# Altium footprint library Footprint.PcbLib: 105 footprints (part 5 of 7)
Each footprint in its own frame and in the unit in brackets; x right, y up, seen from the top. Pads: shape width x height; smd on the part's side, far side on the other; paste and mask are expansions set on the pad; w line width, h text height; cw(c..) or ccw(c..) is an arc to the next point about the centre after c.
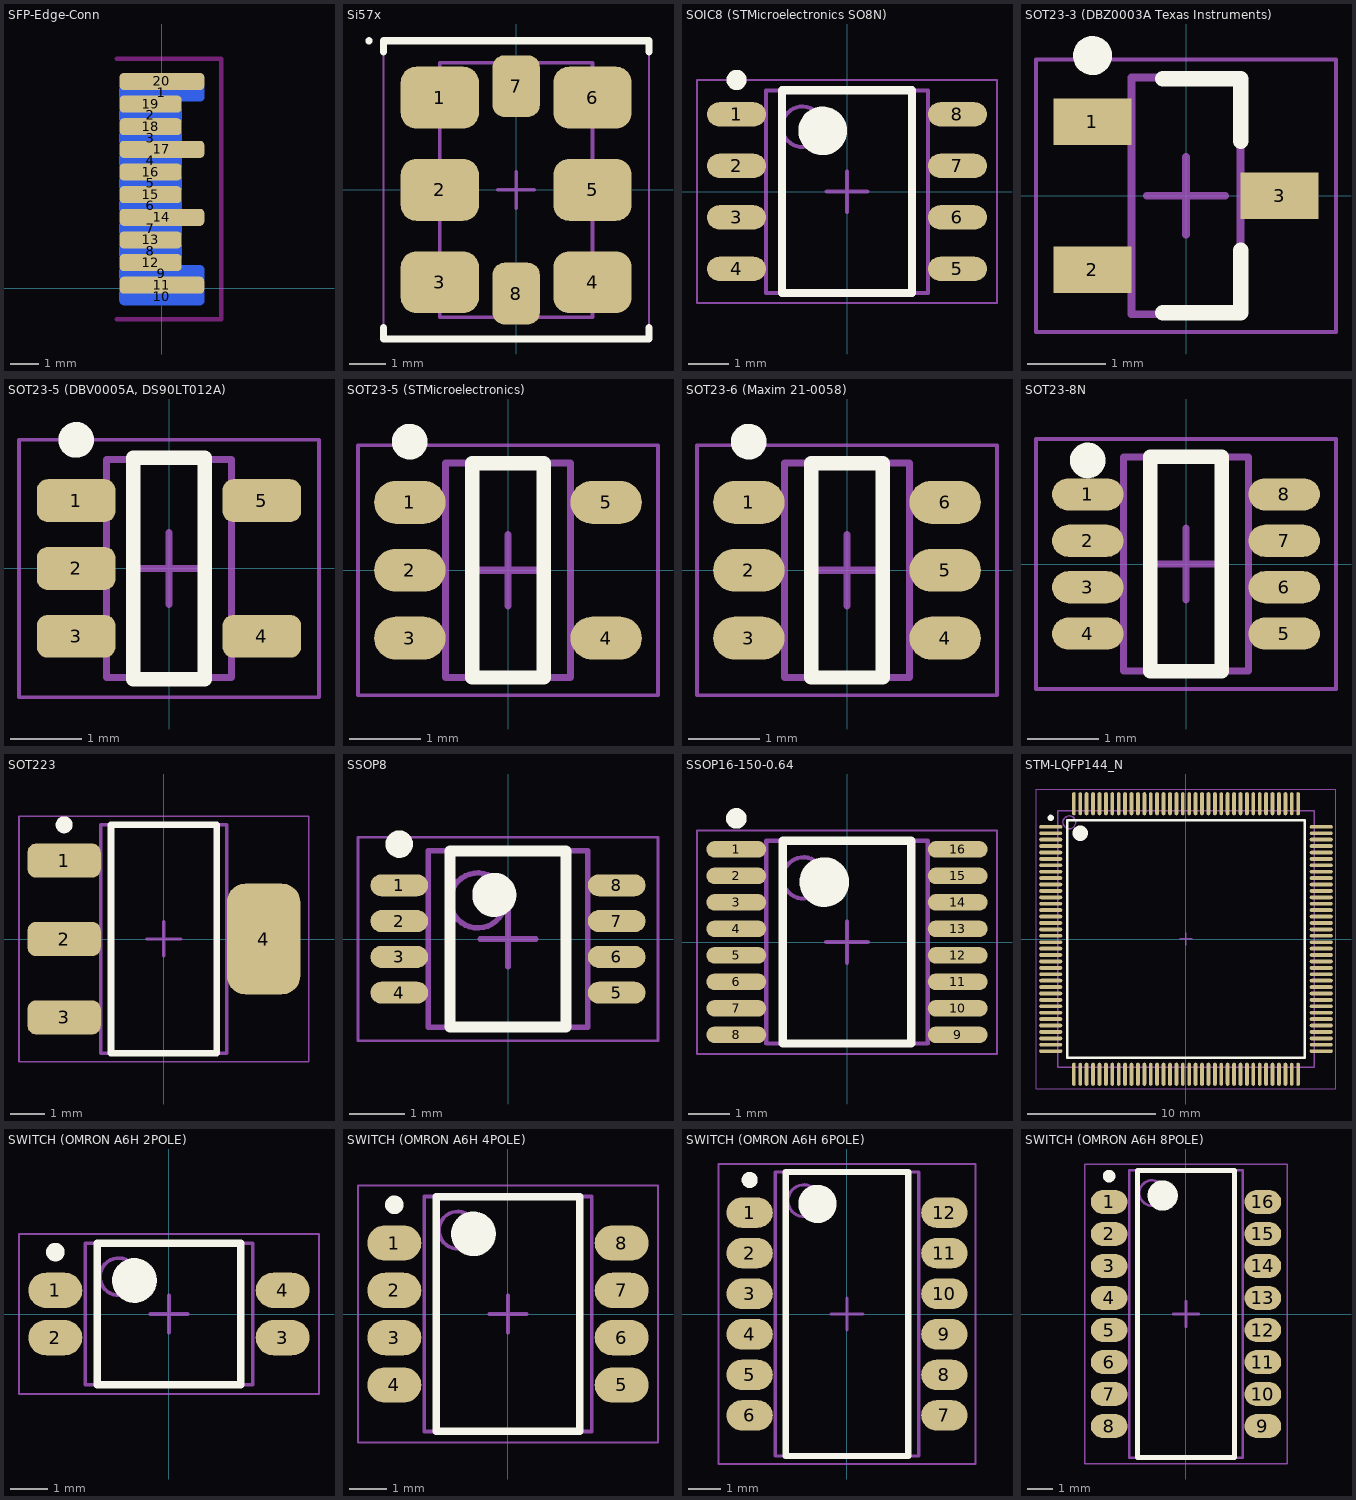
[diagram p4: the footprints below, top view; thin cyan lines are the x and y axes]

## SFP-Edge-Conn [mm]
pads (20):
  rrect50% 3x0.6 smd far side paste-2539.97 mask+0.102: 1(0,6.9) 9(0,0.5) 10(0,-0.3)
  rrect50% 2.2x0.6 smd far side paste-2539.97 mask+0.102: 2(-0.4,6.1) 3(-0.4,5.3) 4(-0.4,4.5) 5(-0.4,3.7) 6(-0.4,2.9) 7(-0.4,2.1) 8(-0.4,1.3)
  rrect50% 3x0.6 smd paste-2539.97 mask-2539.97: 11(0,0.1) 14(0,2.5) 17(0,4.9) 20(0,7.3)
  rrect50% 2.2x0.6 smd paste-2539.97 mask-2539.97: 12(-0.4,0.9) 13(-0.4,1.7) 15(-0.4,3.3) 16(-0.4,4.1) 18(-0.4,5.7) 19(-0.4,6.5)
Top Paste:
  drawing of 10 lines, arcs and shapes, not listed
Bottom Paste:
  drawing of 10 lines, arcs and shapes, not listed
Top Solder:
  drawing of 10 lines, arcs and shapes, not listed
Bottom Solder:
  drawing of 10 lines, arcs and shapes, not listed
Keep-Out Layer:
  lines w0.15: -1.6,-1.1 2.1,-1.1 2.1,8.1 -1.6,8.1
3D body: height 0, standoff 0, extent -1.675,-0.7 1.6,7.7

## Si57x [mm] "Chip Array, Flat, 8-Leads, Pitch 2.54mm,  Body 7.00x5.00mm,  IPC Medium Density"
height 1.8
pads (8):
  rrect50% 2.15x1.7 smd: 1(-2.1,2.54) 2(-2.1,0) 3(-2.1,-2.54) 4(2.1,-2.54) 5(2.1,0) 6(2.1,2.54)
  rrect50% 1.3x1.7 smd: 7(0,2.852) 8(0,-2.852)
Top Overlay:
  circle w0.1: c-4.05,4.1 r0.05
  circle w0.1: c-4.05,4.1 r0.05
  lines w0.2: -3.65,-3.79 -3.65,-4.1 3.65,-4.1 3.65,-3.79 ; -3.65,3.79 -3.65,4.1 3.65,4.1 3.65,3.79
Mechanical 13:
  lines w0.1: -2.1,-3.5 2.1,-3.5 2.1,3.5 -2.1,3.5 -2.1,-3.5
Mechanical 15:
  lines w0.05: -3.65,-4.1 3.65,-4.1 3.65,4.1 -3.65,4.1 -3.65,-4.1
  lines w0.1: -0.5,0 0.5,0 ; 0,-0.5 0,0.5
3D body: height 1.8, standoff 0, extent -2.5,-3.5 2.5,3.5

## SOIC8 (STMicroelectronics SO8N) [mm] "SOIC, 8-Leads, Body 4,90x3,90mm, Pitch 1,27mm, IPC Medium Density"
height 1.75
pads (8):
  oval 1.45x0.6 smd: 1(-2.725,1.905) 2(-2.725,0.635) 3(-2.725,-0.635) 4(-2.725,-1.905) 5(2.725,-1.905) 6(2.725,-0.635) 7(2.725,0.635) 8(2.725,1.905)
Top Overlay:
  circle w0.6: c-0.6,1.5 r0.3
  circle w0.25: c-2.725,2.755 r0.125
  lines w0.2: -1.6,-2.5 1.6,-2.5 1.6,2.5 -1.6,2.5 -1.6,-2.5
Mechanical 13:
  circle w0.1: c-1.1,1.6 r0.5
  lines w0.1: -2,-2.5 2,-2.5 2,2.5 -2,2.5 -2,-2.5
Mechanical 15:
  lines w0.05: -3.7,-2.75 3.7,-2.75 3.7,2.75 -3.7,2.75 -3.7,-2.75
  lines w0.1: -0.5,0 0.5,0 ; 0,-0.5 0,0.5
3D body: height 1.75, standoff 0.1, extent -2,-2.5 2,2.5

## SOT23-3 (DBZ0003A Texas Instruments) [mm]
height 1.12
pads (3):
  rect 1x0.6 smd: 1(-1.2,0.95) 2(-1.2,-0.95) 3(1.2,0)
Top Overlay:
  circle w0.25: c-1.2,1.8 r0.125
  lines w0.2: -0.3,-1.5 0.7,-1.5 0.7,-0.7 ; -0.3,1.5 0.7,1.5 0.7,0.7
Mechanical 13:
  lines w0.1: -0.7,-1.52 -0.7,1.52 0.7,1.52 0.7,-1.52 -0.7,-1.52
Mechanical 15:
  lines w0.05: -1.925,-1.75 -1.925,1.75 1.925,1.75 1.925,-1.75 -1.925,-1.75
  lines w0.1: -0.5,0 0.5,0 ; 0,-0.5 0,0.5
3D body: height 1.12, standoff 0.1, extent -0.7,-1.52 0.7,1.52

## SOT23-5 (DBV0005A, DS90LT012A) [mm] "SOT23, 5-Leads, Body 2.90x2.80mm, Pitch 0.95mm, IPC Medium Density"
height 1.45
pads (5):
  rrect50% 1.1x0.6 smd: 1(-1.3,0.95) 2(-1.3,0) 3(-1.3,-0.95) 4(1.3,-0.95) 5(1.3,0.95)
Top Overlay:
  circle w0.25: c-1.3,1.8 r0.125
  lines w0.2: -0.5,-1.55 0.5,-1.55 0.5,1.55 -0.5,1.55 -0.5,-1.55
Mechanical 13:
  lines w0.1: -0.875,-1.525 -0.875,1.525 0.875,1.525 0.875,-1.525 -0.875,-1.525
Mechanical 15:
  lines w0.05: -2.1,-1.8 -2.1,1.8 2.1,1.8 2.1,-1.8 -2.1,-1.8
  lines w0.1: -0.5,0 0.5,0 ; 0,-0.5 0,0.5
3D body: height 1.45, standoff 0.15, extent -0.875,-1.525 0.875,1.525

## SOT23-5 (STMicroelectronics) [mm]
height 1.45
pads (5):
  oval 1x0.6 smd: 1(-1.375,0.95) 2(-1.375,0) 3(-1.375,-0.95) 4(1.375,-0.95) 5(1.375,0.95)
Top Overlay:
  circle w0.25: c-1.375,1.8 r0.125
  lines w0.2: -0.5,-1.5 -0.5,1.5 0.5,1.5 0.5,-1.5 -0.5,-1.5
Mechanical 13:
  lines w0.1: -0.875,-1.5 0.875,-1.5 0.875,1.5 -0.875,1.5 -0.875,-1.5
Mechanical 15:
  lines w0.05: -2.1,-1.75 2.1,-1.75 2.1,1.75 -2.1,1.75 -2.1,-1.75
  lines w0.1: -0.5,0 0.5,0 ; 0,-0.5 0,0.5
3D body: height 1.45, standoff 0.15, extent -0.875,-1.5 0.875,1.5

## SOT23-6 (Maxim 21-0058) [mm] "SOT23, 6-Leads, Body 2,90x2,80mm, Pitch 0,95mm, IPC Medium Density"
height 1.45
pads (6):
  oval 1x0.6 smd: 1(-1.375,0.95) 2(-1.375,0) 3(-1.375,-0.95) 4(1.375,-0.95) 5(1.375,0) 6(1.375,0.95)
Top Overlay:
  circle w0.25: c-1.375,1.8 r0.125
  lines w0.2: -0.5,-1.5 -0.5,1.5 0.5,1.5 0.5,-1.5 -0.5,-1.5
Mechanical 13:
  lines w0.1: -0.875,-1.5 0.875,-1.5 0.875,1.5 -0.875,1.5 -0.875,-1.5
Mechanical 15:
  lines w0.05: -2.1,-1.75 2.1,-1.75 2.1,1.75 -2.1,1.75 -2.1,-1.75
  lines w0.1: -0.5,0 0.5,0 ; 0,-0.5 0,0.5
3D body: height 1.45, standoff 0.15, extent -0.875,-1.5 0.875,1.5

## SOT23-8N [mm]
height 1.45
pads (8):
  oval 1x0.45 smd: 1(-1.375,0.975) 2(-1.375,0.325) 3(-1.375,-0.325) 4(-1.375,-0.975) 5(1.375,-0.975) 6(1.375,-0.325) 7(1.375,0.325) 8(1.375,0.975)
Top Overlay:
  circle w0.25: c-1.375,1.45 r0.125
  lines w0.2: -0.5,-1.5 -0.5,1.5 0.5,1.5 0.5,-1.5 -0.5,-1.5
Mechanical 13:
  lines w0.1: -0.875,-1.5 0.875,-1.5 0.875,1.5 -0.875,1.5 -0.875,-1.5
Mechanical 15:
  lines w0.05: -2.1,-1.75 2.1,-1.75 2.1,1.75 -2.1,1.75 -2.1,-1.75
  lines w0.1: -0.5,0 0.5,0 ; 0,-0.5 0,0.5
3D body: height 1.45, standoff 0.15, extent -0.875,-1.5 0.875,1.5

## SOT223 [mm] "SOT223, 4-Leads, Body 6.50x7.00mm (avg), Pitch 2.30mm, IPC Medium Density"
height 1.8
pads (4):
  rrect50% 2.15x1 smd: 1(-2.925,2.3) 2(-2.925,0) 3(-2.925,-2.3)
  rrect50% 2.15x3.25 smd: 4(2.925,0)
Top Overlay:
  circle w0.25: c-2.925,3.35 r0.125
  lines w0.2: -1.55,-3.35 -1.55,3.35 1.55,3.35 1.55,-3.35 -1.55,-3.35
Mechanical 13:
  lines w0.1: -1.85,-3.35 -1.85,3.35 1.85,3.35 1.85,-3.35 -1.85,-3.35
Mechanical 15:
  lines w0.05: -4.25,-3.6 -4.25,3.6 4.25,3.6 4.25,-3.6 -4.25,-3.6
  lines w0.1: -0.5,0 0.5,0 ; 0,-0.5 0,0.5
3D body: height 1.8, standoff 0.02, extent -1.85,-3.35 1.85,3.35

## SSOP8 [mm] "SSOP, 8-Leads, Body 2.95x2.80mm, Pitch 0.65mm, IPC Medium Density"
height 1.3
pads (8):
  oval 1.05x0.4 smd: 1(-1.975,0.975) 2(-1.975,0.325) 3(-1.975,-0.325) 4(-1.975,-0.975) 5(1.975,-0.975) 6(1.975,-0.325) 7(1.975,0.325) 8(1.975,0.975)
Top Overlay:
  circle w0.4: c-0.25,0.8 r0.2
  circle w0.25: c-1.975,1.725 r0.125
  lines w0.2: -1.05,-1.6 1.05,-1.6 1.05,1.6 -1.05,1.6 -1.05,-1.6
Mechanical 13:
  circle w0.1: c-0.55,0.7 r0.5
  lines w0.1: -1.45,-1.6 1.45,-1.6 1.45,1.6 -1.45,1.6 -1.45,-1.6
Mechanical 15:
  lines w0.05: -2.725,-1.85 2.725,-1.85 2.725,1.85 -2.725,1.85 -2.725,-1.85
  lines w0.1: -0.5,0 0.5,0 ; 0,-0.5 0,0.5
3D body: height 1.3, standoff 0.1, extent -1.45,-1.6 1.45,1.6

## SSOP16-150-0.64 [mm]
height 1.75
pads (16):
  oval 1.45x0.4 smd: 1(-2.675,2.24) 2(-2.675,1.6) 3(-2.675,0.96) 4(-2.675,0.32) 5(-2.675,-0.32) 6(-2.675,-0.96) 7(-2.675,-1.6) 8(-2.675,-2.24) 9(2.675,-2.24) 10(2.675,-1.6) 11(2.675,-0.96) 12(2.675,-0.32) 13(2.675,0.32) 14(2.675,0.96) 15(2.675,1.6) 16(2.675,2.24)
Top Overlay:
  circle w0.6: c-0.55,1.45 r0.3
  circle w0.25: c-2.675,2.99 r0.125
  lines w0.2: -1.55,-2.45 1.55,-2.45 1.55,2.45 -1.55,2.45 -1.55,-2.45
Mechanical 13:
  circle w0.1: c-1.05,1.55 r0.5
  lines w0.1: -1.95,-2.45 1.95,-2.45 1.95,2.45 -1.95,2.45 -1.95,-2.45
Mechanical 15:
  lines w0.05: -3.625,-2.7 3.625,-2.7 3.625,2.7 -3.625,2.7 -3.625,-2.7
  lines w0.1: -0.5,0 0.5,0 ; 0,-0.5 0,0.5
3D body: height 1.75, standoff 0.18, extent -1.95,-2.45 1.95,2.45

## STM-LQFP144_N [mm] "Thin QFP, 144-Leads, Body 20x20mm, Pitch 0.5mm, IPC Medium Density"
height 1.6
pads (144):
  oval 1.8x0.3 smd: 1(-10.55,8.75) 2(-10.55,8.25) 3(-10.55,7.75) 4(-10.55,7.25) 5(-10.55,6.75) 6(-10.55,6.25) 7(-10.55,5.75) 8(-10.55,5.25) 9(-10.55,4.75) 10(-10.55,4.25) 11(-10.55,3.75) 12(-10.55,3.25) 13(-10.55,2.75) 14(-10.55,2.25) 15(-10.55,1.75) 16(-10.55,1.25) 17(-10.55,0.75) 18(-10.55,0.25) 19(-10.55,-0.25) 20(-10.55,-0.75) 21(-10.55,-1.25) 22(-10.55,-1.75) 23(-10.55,-2.25) 24(-10.55,-2.75) 25(-10.55,-3.25) 26(-10.55,-3.75) 27(-10.55,-4.25) 28(-10.55,-4.75) 29(-10.55,-5.25) 30(-10.55,-5.75) 31(-10.55,-6.25) 32(-10.55,-6.75) 33(-10.55,-7.25) 34(-10.55,-7.75) 35(-10.55,-8.25) 36(-10.55,-8.75) 73(10.55,-8.75) 74(10.55,-8.25) 75(10.55,-7.75) 76(10.55,-7.25) 77(10.55,-6.75) 78(10.55,-6.25) 79(10.55,-5.75) 80(10.55,-5.25) 81(10.55,-4.75) 82(10.55,-4.25) 83(10.55,-3.75) 84(10.55,-3.25) 85(10.55,-2.75) 86(10.55,-2.25) 87(10.55,-1.75) 88(10.55,-1.25) 89(10.55,-0.75) 90(10.55,-0.25) 91(10.55,0.25) 92(10.55,0.75) 93(10.55,1.25) 94(10.55,1.75) 95(10.55,2.25) 96(10.55,2.75) 97(10.55,3.25) 98(10.55,3.75) 99(10.55,4.25) 100(10.55,4.75) 101(10.55,5.25) 102(10.55,5.75) 103(10.55,6.25) 104(10.55,6.75) 105(10.55,7.25) 106(10.55,7.75) 107(10.55,8.25) 108(10.55,8.75)
  oval 0.3x1.8 smd: 37(-8.75,-10.55) 38(-8.25,-10.55) 39(-7.75,-10.55) 40(-7.25,-10.55) 41(-6.75,-10.55) 42(-6.25,-10.55) 43(-5.75,-10.55) 44(-5.25,-10.55) 45(-4.75,-10.55) 46(-4.25,-10.55) 47(-3.75,-10.55) 48(-3.25,-10.55) 49(-2.75,-10.55) 50(-2.25,-10.55) 51(-1.75,-10.55) 52(-1.25,-10.55) 53(-0.75,-10.55) 54(-0.25,-10.55) 55(0.25,-10.55) 56(0.75,-10.55) 57(1.25,-10.55) 58(1.75,-10.55) 59(2.25,-10.55) 60(2.75,-10.55) 61(3.25,-10.55) 62(3.75,-10.55) 63(4.25,-10.55) 64(4.75,-10.55) 65(5.25,-10.55) 66(5.75,-10.55) 67(6.25,-10.55) 68(6.75,-10.55) 69(7.25,-10.55) 70(7.75,-10.55) 71(8.25,-10.55) 72(8.75,-10.55) 109(8.75,10.55) 110(8.25,10.55) 111(7.75,10.55) 112(7.25,10.55) 113(6.75,10.55) 114(6.25,10.55) 115(5.75,10.55) 116(5.25,10.55) 117(4.75,10.55) 118(4.25,10.55) 119(3.75,10.55) 120(3.25,10.55) 121(2.75,10.55) 122(2.25,10.55) 123(1.75,10.55) 124(1.25,10.55) 125(0.75,10.55) 126(0.25,10.55) 127(-0.25,10.55) 128(-0.75,10.55) 129(-1.25,10.55) 130(-1.75,10.55) 131(-2.25,10.55) 132(-2.75,10.55) 133(-3.25,10.55) 134(-3.75,10.55) 135(-4.25,10.55) 136(-4.75,10.55) 137(-5.25,10.55) 138(-5.75,10.55) 139(-6.25,10.55) 140(-6.75,10.55) 141(-7.25,10.55) 142(-7.75,10.55) 143(-8.25,10.55) 144(-8.75,10.55)
Top Overlay:
  circle w0.25: c-10.55,9.45 r0.125
  circle w0.6: c-8.25,8.25 r0.3
  lines w0.2: -9.25,-9.25 -9.25,9.25 9.25,9.25 9.25,-9.25 -9.25,-9.25
Mechanical 13:
  circle w0.1: c-9.1,9.1 r0.5
  lines w0.1: -10,-10 -10,10 10,10 10,-10 -10,-10
Mechanical 15:
  lines w0.05: -11.7,-11.7 -11.7,11.7 11.7,11.7 11.7,-11.7 -11.7,-11.7
  lines w0.1: -0.5,0 0.5,0 ; 0,-0.5 0,0.5
3D body: height 1.6, standoff 0.05, extent -10,-10 10,10

## SWITCH (OMRON A6H 2POLE) [mm]
height 1.45
pads (4):
  oval 1.45x0.95 smd: 1(-3.05,0.635) 2(-3.05,-0.635) 3(3.05,-0.635) 4(3.05,0.635)
Top Overlay:
  circle w0.25: c-3.05,1.66 r0.125
  circle w0.6: c-0.925,0.9 r0.3
  lines w0.2: -1.925,-1.9 -1.925,1.9 1.925,1.9 1.925,-1.9 -1.925,-1.9
Mechanical 13:
  circle w0.1: c-1.35,1 r0.5
  lines w0.1: -2.25,-1.9 -2.25,1.9 2.25,1.9 2.25,-1.9 -2.25,-1.9
Mechanical 15:
  lines w0.05: -4.025,-2.15 -4.025,2.15 4.025,2.15 4.025,-2.15 -4.025,-2.15
  lines w0.1: -0.5,0 0.5,0 ; 0,-0.5 0,0.5
3D body: height 1.45, standoff 0.1, extent -2.25,-1.9 2.25,1.9

## SWITCH (OMRON A6H 4POLE) [mm]
height 1.45
pads (8):
  oval 1.45x0.95 smd: 1(-3.05,1.905) 2(-3.05,0.635) 3(-3.05,-0.635) 4(-3.05,-1.905) 5(3.05,-1.905) 6(3.05,-0.635) 7(3.05,0.635) 8(3.05,1.905)
Top Overlay:
  circle w0.25: c-3.05,2.93 r0.125
  circle w0.6: c-0.925,2.15 r0.3
  lines w0.2: -1.925,-3.15 -1.925,3.15 1.925,3.15 1.925,-3.15 -1.925,-3.15
Mechanical 13:
  circle w0.1: c-1.35,2.25 r0.5
  lines w0.1: -2.25,-3.15 -2.25,3.15 2.25,3.15 2.25,-3.15 -2.25,-3.15
Mechanical 15:
  lines w0.05: -4.025,-3.45 -4.025,3.45 4.025,3.45 4.025,-3.45 -4.025,-3.45
  lines w0.1: -0.5,0 0.5,0 ; 0,-0.5 0,0.5
3D body: height 1.45, standoff 0.1, extent -2.25,-3.15 2.25,3.15

## SWITCH (OMRON A6H 6POLE) [mm]
height 1.45
pads (12):
  oval 1.45x0.95 smd: 1(-3.05,3.175) 2(-3.05,1.905) 3(-3.05,0.635) 4(-3.05,-0.635) 5(-3.05,-1.905) 6(-3.05,-3.175) 7(3.05,-3.175) 8(3.05,-1.905) 9(3.05,-0.635) 10(3.05,0.635) 11(3.05,1.905) 12(3.05,3.175)
Top Overlay:
  circle w0.6: c-0.925,3.45 r0.3
  circle w0.25: c-3.05,4.2 r0.125
  lines w0.2: -1.925,-4.45 1.925,-4.45 1.925,4.45 -1.925,4.45 -1.925,-4.45
Mechanical 13:
  circle w0.1: c-1.35,3.55 r0.5
  lines w0.1: -2.25,-4.45 2.25,-4.45 2.25,4.45 -2.25,4.45 -2.25,-4.45
Mechanical 15:
  lines w0.05: -4.025,-4.7 4.025,-4.7 4.025,4.7 -4.025,4.7 -4.025,-4.7
  lines w0.1: -0.5,0 0.5,0 ; 0,-0.5 0,0.5
3D body: height 1.45, standoff 0.1, extent -2.25,-4.45 2.25,4.45

## SWITCH (OMRON A6H 8POLE) [mm]
height 1.45
pads (16):
  oval 1.45x0.95 smd: 1(-3.05,4.445) 2(-3.05,3.175) 3(-3.05,1.905) 4(-3.05,0.635) 5(-3.05,-0.635) 6(-3.05,-1.905) 7(-3.05,-3.175) 8(-3.05,-4.445) 9(3.05,-4.445) 10(3.05,-3.175) 11(3.05,-1.905) 12(3.05,-0.635) 13(3.05,0.635) 14(3.05,1.905) 15(3.05,3.175) 16(3.05,4.445)
Top Overlay:
  circle w0.25: c-3.05,5.47 r0.125
  circle w0.6: c-0.925,4.7 r0.3
  lines w0.2: -1.925,-5.7 -1.925,5.7 1.925,5.7 1.925,-5.7 -1.925,-5.7
Mechanical 13:
  circle w0.1: c-1.35,4.8 r0.5
  lines w0.1: -2.25,-5.7 -2.25,5.7 2.25,5.7 2.25,-5.7 -2.25,-5.7
Mechanical 15:
  lines w0.05: -4.025,-5.95 -4.025,5.95 4.025,5.95 4.025,-5.95 -4.025,-5.95
  lines w0.1: -0.5,0 0.5,0 ; 0,-0.5 0,0.5
3D body: height 1.45, standoff 0.1, extent -2.25,-5.7 2.25,5.7